# Altium footprint library Diode.PcbLib: 30 footprints (part 2 of 2)
Each footprint in its own frame and in the unit in brackets; x right, y up, seen from the top. Pads: shape width x height; smd on the part's side, far side on the other; paste and mask are expansions set on the pad; w line width, h text height; cw(c..) or ccw(c..) is an arc to the next point about the centre after c.
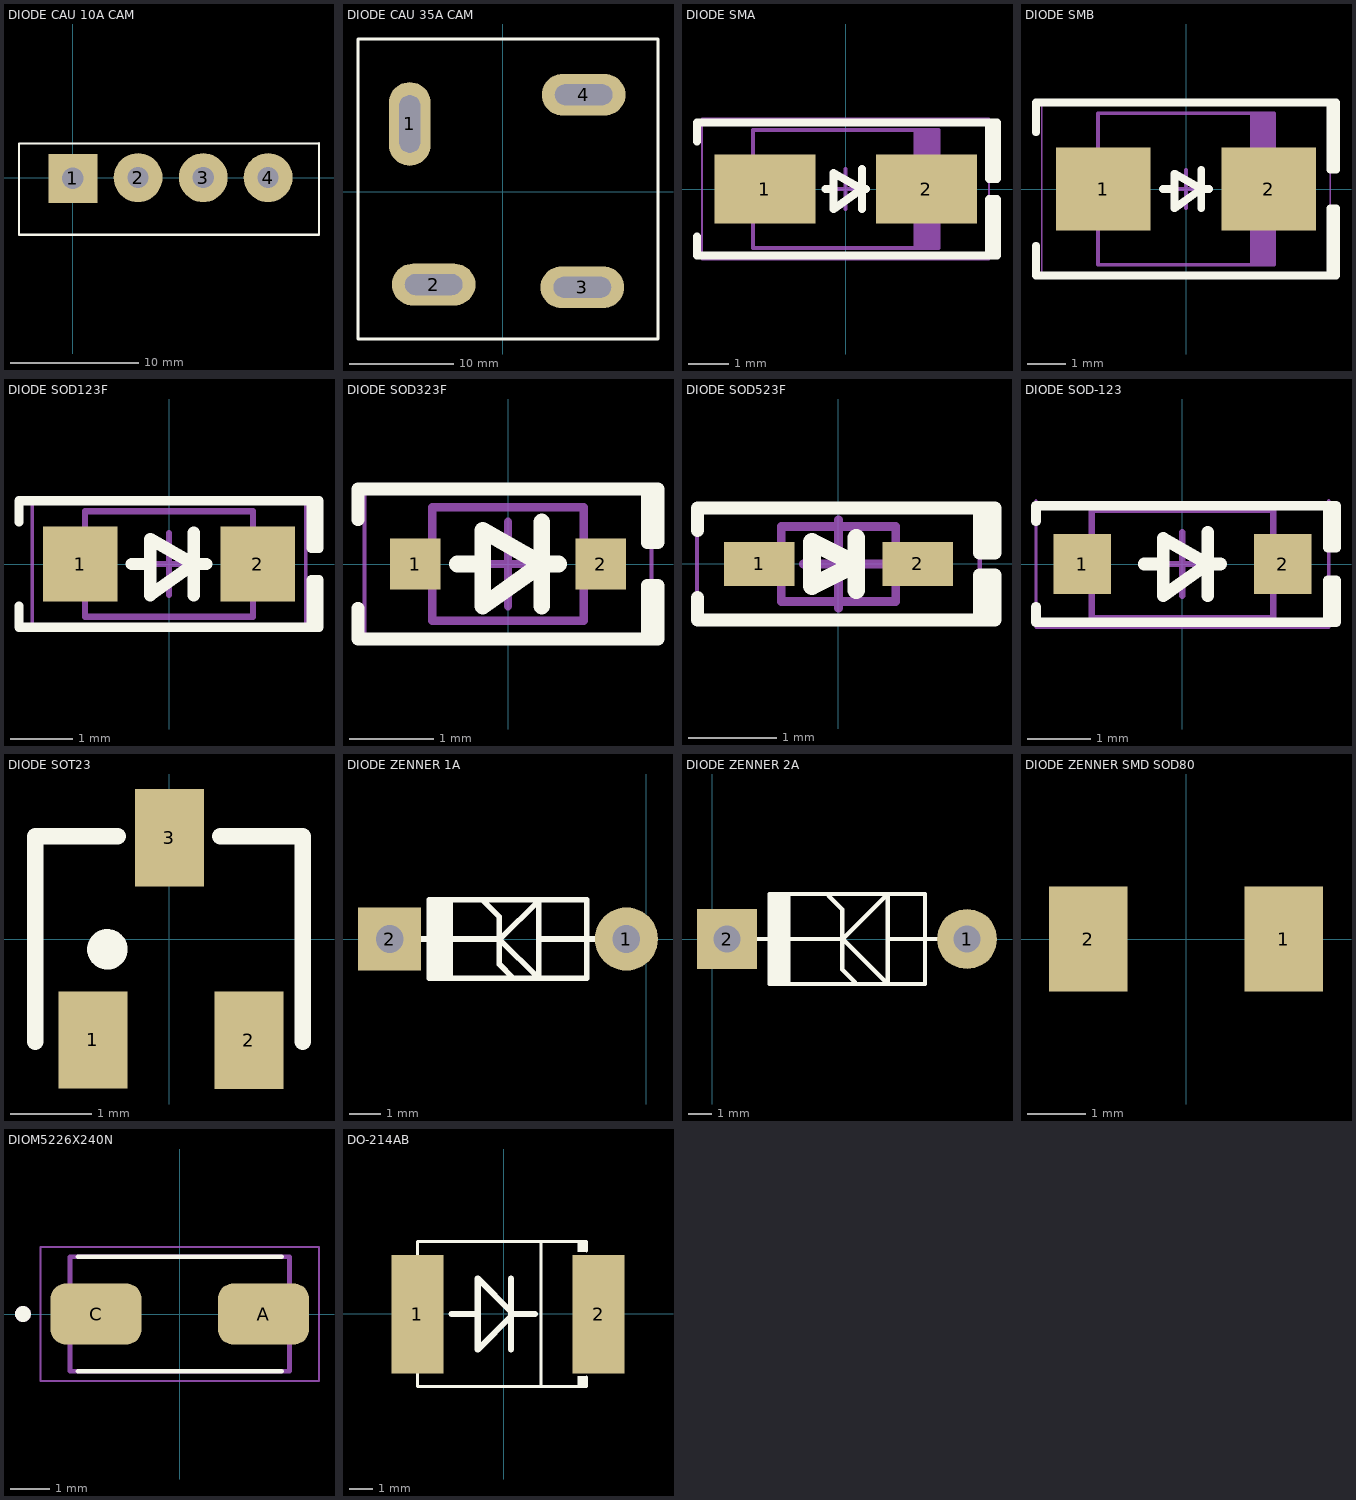
[diagram p1: the footprints below, top view; thin cyan lines are the x and y axes]

## DIODE CAU 10A CAM [mil] "DIODE CAU 10A CAM"
height 800
pads (4):
  rect 150x150 hole 65: 1(0,-2)
  round 150 hole 65: 2(200,0) 3(400,0) 4(599,0)
Top Overlay:
  lines w7: -165,-175 -165,104.19 755,105.34 755,-175 -165,-175
3D body "User Library-Silicon Bridge Rectifiers KBU1010.step": height 931.1, standoff -734.25, extent -161.69,-173.62 751.69,100

## DIODE CAU 35A CAM [mm] "DIODE CAU 35A/1000V"
pads (4):
  oval 4x8 hole 2 slot 5.5 at 90 deg: 1(-8.89,6.477)
  oval 8x4 hole 2 slot 5.5 at 0 deg: 2(-6.604,-8.89) 3(7.62,-9.144) 4(7.747,9.271)
Top Overlay:
  lines w0.254: -13.843,-14.097 -13.843,14.605 14.859,14.605 14.859,-14.097 -13.843,-14.097
3D body "User Library-Diode Bridge.step": height 7.5, standoff -14.5, extent -13.741,-14.046 14.859,14.554

## DIODE SMA [mm] "SMA"
height 2.4
pads (2):
  rect 2.5x1.7 smd: 1(-2,0) 2(2,0)
Top Overlay:
  lines w0.2: -3.683,-1.175 -3.683,-1.651 3.75,-1.651 3.75,-0.254 3.556,-0.254 3.556,-1.651 ; -3.683,1.175 -3.683,1.651 3.75,1.651 3.75,0.254 3.556,0.254 3.556,1.651 ; -0.5,0 -0.3,0 ; 0.4,-0.5 0.4,0.5 ; 0.5,0 0.4,0 ; 0.4,0 -0.3,-0.5 -0.3,0.4 0.4,0
Mechanical 13:
  rectangle: 1.681,-1.46 2.3,1.46
  lines w0.1: -2.3,-1.46 2.3,-1.46 2.3,1.46 -2.3,1.46 -2.3,-1.46
Mechanical 15:
  lines w0.05: -3.556,-1.75 3.556,-1.75 3.556,1.75 -3.556,1.75 -3.556,-1.75
  lines w0.1: -0.5,0 0.5,0 ; 0,-0.5 0,0.5
3D body "SMA.STEP": height 2.4, standoff 0, extent -2.6,-1.375 2.6,1.375

## DIODE SMB [mm] "SMB"
height 2.44
pads (2):
  rect 2.45x2.15 smd: 1(-2.15,0) 2(2.15,0)
Top Overlay:
  lines w0.2: -3.9,-1.475 -3.9,-2.25 3.9,-2.25 3.9,-0.5 3.75,-0.5 3.75,-2.25 ; -3.9,1.475 -3.9,2.25 3.9,2.25 3.9,0.5 3.75,0.5 3.75,2.25 ; -0.6,0 -0.3,0 ; 0.4,-0.5 0.4,0.5 ; 0.6,0 0.4,0 ; 0.4,0 -0.3,-0.5 -0.3,0.4 0.4,0
Mechanical 13:
  rectangle: 1.67,-1.97 2.285,1.97
  lines w0.1: -2.285,-1.97 -2.285,1.97 2.285,1.97 2.285,-1.97 -2.285,-1.97
Mechanical 15:
  lines w0.05: -3.75,-2.25 -3.75,2.25 3.75,2.25 3.75,-2.25 -3.75,-2.25
  lines w0.1: -0.5,0 0.5,0 ; 0,-0.5 0,0.5
3D body "SMB.STEP": height 2.4, standoff 0, extent -2.6,-1.799 2.6,1.8

## DIODE SOD123F [mm] "SOD123F"
height 1
pads (2):
  rect 1.2x1.2 smd: 1(-1.43,0) 2(1.43,0)
Top Overlay:
  lines w0.15: -2.413,-0.675 -2.413,-1.016 2.286,-1.016 ; -2.413,0.675 -2.413,1.016 2.286,1.016 ; 2.286,-1.016 2.413,-1.016 2.413,-0.254 2.286,-0.254 2.286,-1.016 ; 2.286,1.016 2.286,0.254 2.413,0.254 2.413,1.016 2.286,1.016
  lines w0.2: -0.6,0 -0.3,0 ; 0.4,-0.5 0.4,0.5 ; 0.6,0 0.4,0 ; 0.4,0 -0.3,0.4 -0.3,-0.5 0.4,0
Mechanical 13:
  lines w0.1: -1.35,-0.85 -1.35,0.85 1.35,0.85 1.35,-0.85 -1.35,-0.85
Mechanical 15:
  lines w0.05: -2.2,-1 -2.2,1 2.2,1 2.2,-1 -2.2,-1
  lines w0.1: -0.5,0 0.5,0 ; 0,-0.5 0,0.5
3D body "SOD123F.STEP": height 1.1, standoff 0, extent -1.75,-0.8 1.75,0.8

## DIODE SOD323F [mm] "SOD323F"
height 0.8
pads (2):
  rect 0.6x0.6 smd: 1(-1.1,0) 2(1.1,0)
Top Overlay:
  lines w0.15: -1.778,-0.525 -1.778,-0.889 1.778,-0.889 1.778,-0.254 1.651,-0.254 1.651,-0.889 ; -1.778,0.525 -1.778,0.889 1.778,0.889 1.778,0.254 1.651,0.254 1.651,0.889
  lines w0.2: -0.6,0 -0.3,0 ; 0.4,-0.5 0.4,0.5 ; 0.6,0 0.4,0 ; 0.4,0 -0.3,-0.5 -0.3,0.4 0.4,0
Mechanical 13:
  lines w0.1: -0.9,-0.675 0.9,-0.675 0.9,0.675 -0.9,0.675 -0.9,-0.675
Mechanical 15:
  lines w0.05: -1.7,-0.85 1.7,-0.85 1.7,0.85 -1.7,0.85 -1.7,-0.85
  lines w0.1: -0.5,0 0.5,0 ; 0,-0.5 0,0.5
3D body "SOD323F.STEP": height 0.8, standoff 0, extent -1.25,-0.625 1.25,0.625

## DIODE SOD523F [mm] "SOD323F"
height 0.77
pads (2):
  rect 0.8x0.5 smd: 1(-0.9,0) 2(0.9,0)
Top Overlay:
  rectangle: 1.6,-0.6 1.8,-0.127
  rectangle: 1.6,0.127 1.778,0.635
  lines w0.15: -1.6,-0.381 -1.6,-0.635 1.651,-0.635 ; -1.6,0.381 -1.6,0.635 1.651,0.635 ; 1.6,-0.635 1.6,-0.127 1.778,-0.127 1.778,-0.635 1.6,-0.635 ; 1.6,0.127 1.778,0.127 1.778,0.635 1.6,0.635 1.6,0.127
  lines w0.2: 0.2,-0.3 0.2,0.3 ; -0.3,-0.25 0.2,0 -0.3,0.25 -0.3,-0.1 -0.3,-0.25
Mechanical 13:
  lines w0.1: -0.65,-0.425 -0.65,0.425 0.65,0.425 0.65,-0.425 -0.65,-0.425
Mechanical 15:
  lines w0.05: -1.606,-0.6 -1.606,0.6 1.606,0.6 1.606,-0.6 -1.606,-0.6
  lines w0.1: -0.4,0 0.6,0 ; 0,-0.5 0,0.5
3D body "SOD523F.STEP": height 0.65, standoff 0, extent -0.8,-0.4 0.8,0.4

## DIODE SOD-123 [mm] "SOD-123"
height 1.35
pads (2):
  rect 0.9x0.95 smd: 1(-1.575,0) 2(1.575,0)
Top Overlay:
  lines w0.15: -2.3,-0.675 -2.3,-0.916 2.286,-0.916 ; -2.3,0.675 -2.3,0.916 2.286,0.916 ; 2.286,-0.916 2.286,-0.254 2.413,-0.254 2.413,-0.916 2.286,-0.916 ; 2.286,0.916 2.413,0.916 2.413,0.254 2.286,0.254 2.286,0.916
  lines w0.2: -0.6,0 -0.3,0 ; 0.4,-0.5 0.4,0.5 ; 0.6,0 0.4,0 ; 0.4,0 -0.3,-0.5 -0.3,0.4 0.4,0
Mechanical 13:
  lines w0.1: -1.425,-0.85 1.425,-0.85 1.425,0.85 -1.425,0.85 -1.425,-0.85
Mechanical 15:
  lines w0.05: -2.3,0.9 2.3,0.9 ; -2.3,1 -2.3,-1 2.3,-1 2.3,1
  lines w0.1: -0.5,0 0.5,0 ; 0,-0.5 0,0.5
3D body "SOD-123.STEP": height 1.35, standoff 0, extent -1.864,-0.775 1.864,0.775

## DIODE SOT23 [mm] "SOT 23 _ 1-3-2"
height 1.27
pads (3):
  rect 0.85x1.2 smd: 1(-0.94,-1.245) 2(0.985,-1.25) 3(0.005,1.25)
Top Overlay:
  circle w0.25: c-0.76,-0.127 r0.125
  lines w0.203: -1.651,-1.27 -1.651,1.27 -0.635,1.27 ; 0.635,1.27 1.651,1.27 1.651,-1.27
3D body "SW3DPS-SOT-23-DEFAULT.STEP": height 1.06, standoff -0.04, extent -1.475,-1.326 1.525,1.174

## DIODE ZENNER 1A [mil] "Diode ZENNER 1A"
height 100
pads (2):
  round 80 hole 35: 1(-25,0)
  rect 80x80 hole 35: 2(-325,0)
Top Overlay:
  region: -275,50 -275,-50 -245,-50 -245,50
  lines w7: -305,0 -275,0 ; -275,-16 -275,0 ; -275,21 -275,0 ; -255,0 -190,0 ; -208,50 -186,28 -186,-32 -168.5,-49.5 ; -185.5,-0.5 -136,-50 -136,50 -136,49 -185,0 -185,-1 ; -135,0 -75,0 -45,0 ; -275,0 -275,50 -75,50 -75,-50 -275,-50 -275,0
3D body "SW3dPS-Zener 1W.STEP": height 120.61, standoff -50, extent -345.5,-55 -14.5,50

## DIODE ZENNER 2A [mil] "DIODE ZENNER 2A"
height 100
pads (2):
  round 100 hole 45: 1(425,0)
  rect 100x100 hole 45: 2(25,0)
Top Overlay:
  region: 95,75 95,-75 130,-75 130,75
  lines w7: 61,0 96,0 ; 96,-31 96,0 ; 96,32 96,0 ; 115,0 215,0 ; 194,72 217,49 217,-51 239,-73 ; 218,1 218,0 ; 295,0 360,0 ; 355,0 391,0 ; 218,0 293,75 293,-75 218,0 ; 96,-75 96,75 355,75 355,-75 96,-75
3D body "SW3DPS-DIODE0_4-DEFAULT.STEP": height 100.5, standoff -100, extent 10,-50.5 440,50.5

## DIODE ZENNER SMD SOD80 [mm] "SOD80"
pads (2):
  rect 1.35x1.8 smd: 1(1.675,0) 2(-1.675,0)
3D body "User Library-Diode MELF.step": height 1.45, standoff -0.05, extent -1.75,-0.762 1.75,0.738

## DIOM5226X240N [mm]
pads (2):
  rrect50% 2.33x1.55 smd: A(2.135,0) C(-2.135,0)
Top Overlay:
  circle w0.2: c-4,0 r0.1
  lines w0.127: -2.6,-1.46 2.6,-1.46 ; -2.6,1.46 2.6,1.46
Mechanical 13:
  circle w0.2: c-4,0 r0.1
  lines w0.127: -2.8,-1.46 -2.8,1.46 2.8,1.46 2.8,-1.46 -2.8,-1.46
Mechanical 15:
  lines w0.05: -3.55,-1.71 -3.55,1.71 3.55,1.71 3.55,-1.71 -3.55,-1.71

## DO-214AB [mm] "DO-214AB"
height 3
pads (2):
  rect 2.2x5 smd: 1(-3.637,-0.008) 2(3.983,-0.008)
Top Overlay:
  rectangle: 3.1,-3.1 3.5,-2.6
  rectangle: 3.1,2.6 3.5,3.1
  lines w0.127: -3.637,-2.421 -3.637,-3.056 3.475,-3.056 3.475,-2.65 ; -3.637,2.405 -3.637,3.04 3.475,3.04 3.475,2.65 ; 1.57,-3.056 1.57,3.04
  lines w0.254: -2.2,0 -1.2,0 ; 0.3,-1.5 0.3,1.5 ; 1.3,0 0.4,0 ; 0.4,0 -1.1,1.5 -1.1,-1.5 0.4,0
Mechanical 1:
  lines w0.025: -3.637,-3.056 3.475,-3.056 ; -3.637,3.04 3.475,3.04
3D body "User Library-Diode Molded 5025Body.step": height 2.13, standoff -0.03, extent -4,-2.975 3.9,3.025